# Altium schematic symbol library hardware-luminox_to_sdi12_interface.SchLib: 1 symbol
Pins are listed as number, name and electrical type; pins without a type are passive.

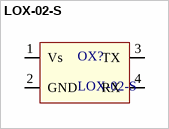
[diagram p0: symbol LOX-02-S]

## LOX-02-S
designator OX?
LuminOx optical oxygen sensor; range: 25%; supply: 4.5-5.5VDC; working temperature: -30+60 deg.C; response time: 30s;...; Manufacturer: SST Sensing; Supplier 1: Mouser; Manufacturer Part Number: LOX-02-S; Stock 1: 5; Pricing 1: 1=138.36, 10=120.95, 50=115.92, 100=115.92, 1000=115.92, 10000=115.92 (USD)
footprint LOX-02-S (LuminOX Oxygen Serial (UART) Sonsor Footprint)
pins: 1 Vs, 2 GND, 3 TX, 4 RX